# EAGLE library part MODSAA7113 (library digistation)
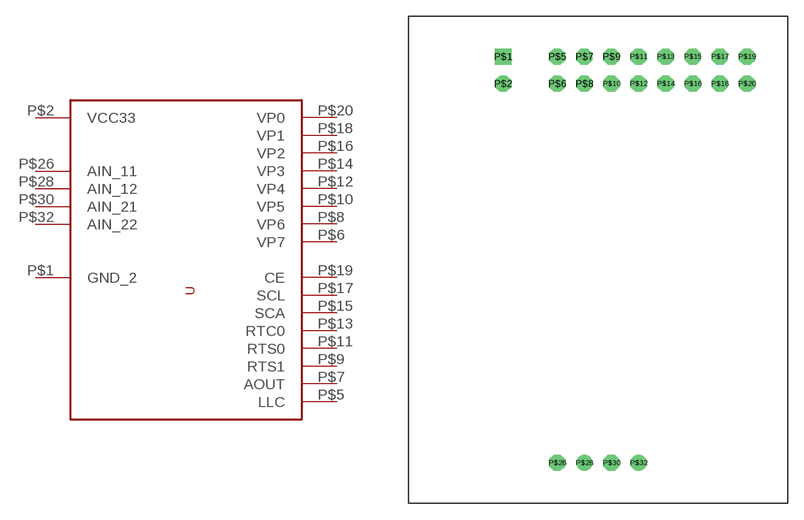
[diagram p5: symbol with the pads of MODSAA7113; footprint MODSAA7113]

Designator prefix -

## MODSAA7113  [MODSAA7113]
P$1  GND_2
P$2  VCC33
P$5  LLC
P$6  VP7
P$7  AOUT
P$8  VP6
P$9  RTS1
P$10  VP5
P$11  RTS0
P$12  VP4
P$13  RTC0
P$14  VP3
P$15  SCA
P$16  VP2
P$17  SCL
P$18  VP1
P$19  CE
P$20  VP0
P$26  AIN_11
P$28  AIN_12
P$30  AIN_21
P$32  AIN_22

## Footprint MODSAA7113 (pad centres in mm)
drill 1.016 square: P$1 -11.43,19.05
drill 1.016 octagon: P$2 -11.43,16.51; P$5 -6.35,19.05; P$6 -6.35,16.51; P$7 -3.81,19.05; P$8 -3.81,16.51; P$9 -1.27,19.05; P$10 -1.27,16.51; P$11 1.27,19.05; P$12 1.27,16.51; P$13 3.81,19.05; P$14 3.81,16.51; P$15 6.35,19.05; P$16 6.35,16.51; P$17 8.89,19.05; P$18 8.89,16.51; P$19 11.43,19.05; P$20 11.43,16.51; P$26 -6.35,-19.05; P$30 -1.27,-19.05
drill 1.016 round: P$28 -3.81,-19.05; P$32 1.27,-19.05